# Altium footprint library PcbLib2.PcbLib: 3 footprints
Each footprint in its own frame and in the unit in brackets; x right, y up, seen from the top. Pads: shape width x height; smd on the part's side, far side on the other; paste and mask are expansions set on the pad; w line width, h text height; cw(c..) or ccw(c..) is an arc to the next point about the centre after c.
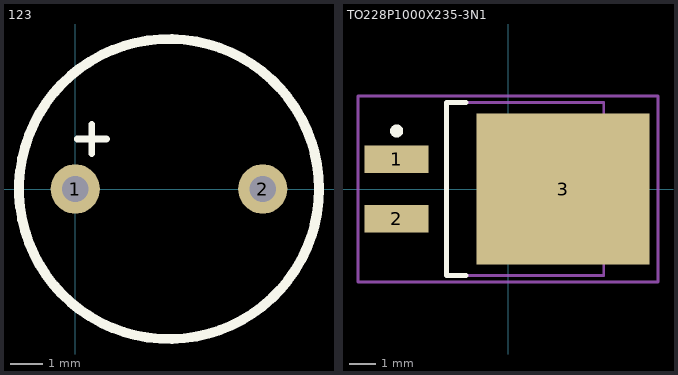
[diagram p0: the footprints below, top view; thin cyan lines are the x and y axes]

## 123 [mm]
pads (2):
  round 1.5 hole 0.8: 1(0,0) 2(5.715,0)
Top Overlay:
  circle w0.3: c2.857,0 r4.572
  lines w0.2: 0.064,1.524 0.953,1.524 ; 0.508,1.079 0.508,1.968

## TO228P1000X235-3N [mm] "D-PAK, 3-Pads, Body 6.0x6.6mm (max), IPC Medium Density"
height 2.35

## TO228P1000X235-3N1 [mm] "D-PAK, 3-Pads, Body 6.0x6.6mm (max), IPC Medium Density"
height 2.35
pads (3):
  rect 2.45x1.05 smd: 1(-4.25,1.14) 2(-4.25,-1.14)
  rect 6.6x5.75 smd: 3(2.1,0)
Top Overlay:
  circle w0.25: c-4.25,2.215 r0.125
  lines w0.2: -1.6,-3.3 -2.35,-3.3 -2.35,3.3 -1.6,3.3
Mechanical 13:
  lines w0.1: -2.35,-3.3 3.65,-3.3 3.65,3.3 -2.35,3.3 -2.35,-3.3
Mechanical 15:
  lines w0.1: -0.5,0 0.5,0 ; 0,-0.5 0,0.5 ; -5.725,-3.55 5.725,-3.55 5.725,3.55 -5.725,3.55 -5.725,-3.55
3D body: height 2.35, standoff 0.1, extent -2.35,-3.3 3.65,3.3